# Altium footprint library LiyaoPCB库.PcbLib: 63 footprints (part 1 of 4)
Each footprint in its own frame and in the unit in brackets; x right, y up, seen from the top. Pads: shape width x height; smd on the part's side, far side on the other; paste and mask are expansions set on the pad; w line width, h text height; cw(c..) or ccw(c..) is an arc to the next point about the centre after c.
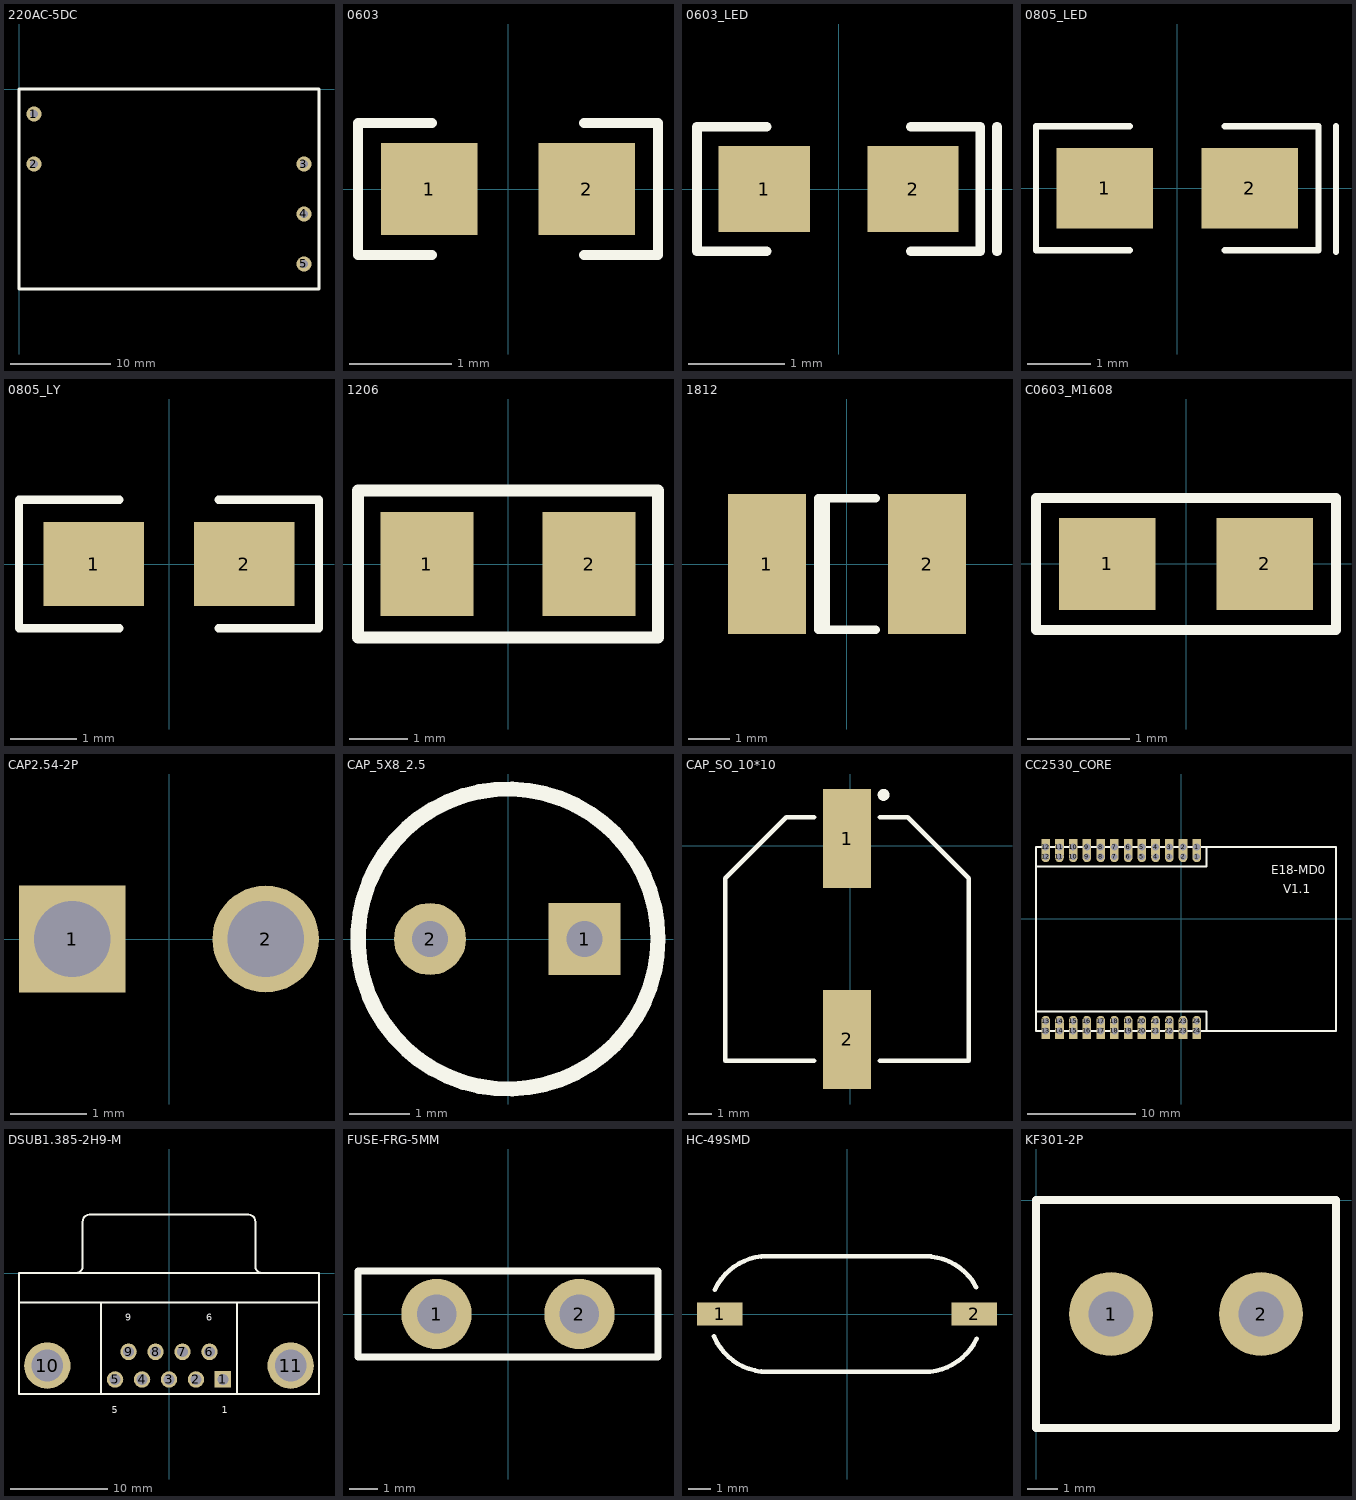
[diagram p0: the footprints below, top view; thin cyan lines are the x and y axes]

## 220AC-5DC [mil]
pads (5):
  round 60 hole 30: 1(59.06,-98.43) 2(59.06,-295.28) 3(1122.05,-295.28) 4(1122.05,-492.13) 5(1122.05,-688.98)
Top Overlay:
  lines w10: 0,-787.4 1181.1,-787.4 1181.1,0 0,0 0,-787.4

## 0603 [mm]
pads (2):
  rect 0.95x0.9 smd: 1(-0.775,0) 2(0.775,0)
Top Overlay:
  lines w0.1: -0.75,-0.65 -1.475,-0.65 -1.475,0.65 -0.75,0.65 ; 0.75,-0.65 1.475,-0.65 1.475,0.65 0.75,0.65

## 0603_LED [mm]
pads (2):
  rect 0.95x0.9 smd: 1(-0.775,0) 2(0.775,0)
Top Overlay:
  lines w0.1: -0.75,-0.65 -1.475,-0.65 -1.475,0.65 -0.75,0.65 ; 0.75,-0.65 1.475,-0.65 1.475,0.65 0.75,0.65 ; 1.65,-0.65 1.65,0.65

## 0805_LED [mil]
pads (2):
  rect 60x50 smd: 1(-45,0) 2(45,0)
Top Overlay:
  lines w3.94: -29.53,-38.39 -87.6,-38.39 -87.6,38.39 -29.53,38.39 ; 29.53,-38.39 87.6,-38.39 87.6,38.39 29.53,38.39 ; 98.43,-39.37 98.43,38.39

## 0805_LY [mil]
pads (2):
  rect 60x50 smd: 1(-45,0) 2(45,0)
Top Overlay:
  lines w5: -29.53,-38.39 -89.57,-38.39 -89.57,38.39 -29.53,38.39 ; 29.53,-38.39 89.57,-38.39 89.57,38.39 29.53,38.39

## 1206 [mm] "3216mm"
pads (2):
  rect 1.6x1.8 smd: 1(-1.4,0) 2(1.4,0)
Top Overlay:
  lines w0.2: -2.591,-1.27 -2.591,1.27 2.591,1.27 2.591,-1.27 -2.591,-1.27

## 1812 [mm] "Chip Capacitor; Body 4.5 x 3.2 mm (LxW typ)"
height 1.1
pads (2):
  rect 1.9x3.4 smd: 1(-1.95,0) 2(1.95,0)
Top Overlay:
  lines w0.2: -0.51,-1.6 -0.51,1.6 ; 0.7,-1.6 -0.7,-1.6 -0.7,1.6 0.7,1.6

## C0603_M1608 [mm] "Chip Capacitor, 2-Leads, Body 1.6x0.8mm, IPC Medium Density"
height 0.55
pads (2):
  rect 0.95x0.9 smd: 1(-0.775,0) 2(0.775,0)
Top Overlay:
  lines w0.1: -1.475,-0.65 1.475,-0.65 1.475,0.65 -1.475,0.65 -1.475,-0.65

## CAP2.54-2P [mm]
pads (2):
  rect 1.4x1.4 hole 1: 1(-1.27,0)
  round 1.4 hole 1: 2(1.27,0)

## CAP_5X8_2.5 [mm] "铝电解"
height 8
pads (2):
  rect 1.2x1.2 hole 0.6: 1(1.275,0)
  round 1.2 hole 0.6: 2(-1.3,0)
Top Overlay:
  circle w0.254: c0,0 r2.5

## CAP_SO_10*10 [mm]
pads (2):
  rect 2.05x4.2 smd: 1(-0.127,0.313) 2(-0.127,-8.187)
Top Overlay:
  circle w0.25: c1.423,2.163 r0.125
  lines w0.2: -1.527,-9.087 -5.277,-9.087 -5.277,-1.362 -2.702,1.213 -1.527,1.213 ; 1.273,-9.087 5.023,-9.087 5.023,-1.362 2.448,1.213 1.273,1.213

## CC2530_CORE [mm]
pads (48):
  oval 0.8x1 hole 0.6: 1(1.445,5.745) 2(0.175,5.745) 3(-1.095,5.745) 4(-2.365,5.745) 5(-3.635,5.745) 6(-4.905,5.745) 7(-6.175,5.745) 8(-7.445,5.745) 9(-8.715,5.745) 10(-9.985,5.745) 11(-11.255,5.745) 12(-12.525,5.745) 13(-12.525,-9.455) 14(-11.255,-9.455) 15(-9.985,-9.455) 16(-8.715,-9.455) 17(-7.445,-9.455) 18(-6.175,-9.455) 19(-4.905,-9.455) 20(-3.635,-9.455) 21(-2.365,-9.455) 22(-1.095,-9.455) 23(0.175,-9.455) 24(1.445,-9.455)
  rect 0.8x1.5 hole 0.65: 1(1.445,6.645) 2(0.175,6.645) 3(-1.095,6.645) 4(-2.365,6.645) 5(-3.635,6.645) 6(-4.905,6.645) 7(-6.175,6.645) 8(-7.445,6.645) 9(-8.715,6.645) 10(-9.985,6.645) 11(-11.255,6.645) 12(-12.525,6.645) 13(-12.525,-10.355) 14(-11.255,-10.355) 15(-9.985,-10.355) 16(-8.715,-10.355) 17(-7.445,-10.355) 18(-6.175,-10.355) 19(-4.905,-10.355) 20(-3.635,-10.355) 21(-2.365,-10.355) 22(-1.095,-10.355) 23(0.175,-10.355) 24(1.445,-10.355)
Top Layer:
  lines w0.22: -12.409,-9.785 ccw(c-12.409,-9.751) -12.385,-9.775
Top Overlay:
  lines w0.2: -13.425,-8.595 -13.425,4.945 ; 2.345,-10.355 2.345,-8.555 -13.425,-8.555 -13.425,-10.355 14.325,-10.355 14.325,6.645 -13.425,6.645 -13.425,4.845 2.345,4.845 2.345,6.645
  lines w0.22: -12.415,-9.785 -12.409,-9.785
  text "V1.1" at 9.445,2.355 h0.8
  text "E18-MD0" at 8.315,4.125 h0.8

## DSUB1.385-2H9-M [mm] "Connector; D Subminiature; 9 Position; Right Angle; Pitch 1.385 mm"
height 12.75
pads (11):
  rect 1.69x1.69 hole 1.09: 1(5.54,-10.92)
  round 1.69 hole 1.09: 2(2.77,-10.92) 3(0,-10.92) 4(-2.77,-10.92) 5(-5.54,-10.92) 6(4.155,-8.08) 7(1.385,-8.08) 8(-1.385,-8.08) 9(-4.155,-8.08)
  round 4.76 hole 3.26: 10(-12.495,-9.5) 11(12.495,-9.5)
Top Overlay:
  lines w0.2: -15.4,-3 15.4,-3 ; -9.56,0.005 ccw(c-9.56,0.7) -8.865,0.7 -8.865,5.3 ; -8.86,5.305 cw(c-8.165,5.305) -8.165,6 8.165,6 cw(c8.165,5.305) 8.86,5.305 ; -7,-12.4 -7,-3 ; 7,-12.4 7,-3 ; 8.865,5.3 8.865,0.7 ccw(c9.56,0.7) 9.56,0.005 ; -15.4,-12.4 15.4,-12.4 15.4,0 -15.4,0 -15.4,-12.4
  text "6" at 3.8,-4.9 h0.7
  text "9" at -4.5,-4.9 h0.7
  text "5" at -5.9,-14.4 h0.7
  text "1" at 5.4,-14.4 h0.7

## FUSE-FRG-5MM [mm]
pads (2):
  round 2.5 hole 1.4: 1(-2.54,0) 2(2.54,0)
Top Overlay:
  lines w0.254: -5.334,-1.524 -5.334,0 -5.334,1.524 5.334,1.524 5.334,-1.524 -5.334,-1.524

## HC-49SMD [mm]
pads (2):
  rect 2x1 smd: 1(-5.588,0) 2(5.588,0)
Top Overlay:
  lines w0.2: -5.84,-0.987 ccw(c-3.5,0) -3.5,-2.54 3.4,-2.54 ccw(c3.4,0) 5.696,-1.086 ; -5.804,1.069 cw(c-3.5,0) -3.5,2.54 3.4,2.54 ; 3.425,2.54 cw(c3.425,0) 5.673,1.182

## KF301-2P [mm]
height 10
pads (2):
  round 2.8 hole 1.5: 1(2.5,-3.8) 2(7.5,-3.8)
Top Overlay:
  lines w0.254: 0,-7.6 10,-7.6 10,0 0,0 0,-7.6